# Altium schematic symbol library tokgoz.SchLib: 3 symbols
Pins are listed as number, name and electrical type; pins without a type are passive.

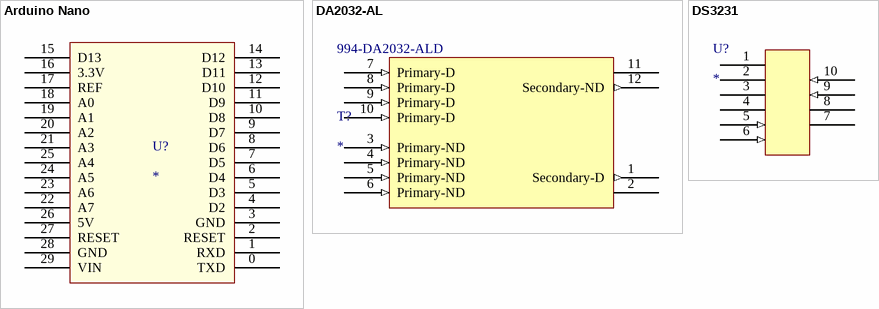
[diagram p0: symbols Arduino Nano to DS3231]

## Arduino Nano
designator U?
footprint Arduino Nano - duplicate
footprint Arduino Nano - duplicate
pins: 0 TXD, 1 RXD, 2 RESET, 3 GND, 4 D2, 5 D3, 6 D4, 7 D5, 8 D6, 9 D7, 10 D8, 11 D9, 12 D10, 13 D11, 14 D12, 15 D13, 16 3.3V, 17 REF, 18 A0, 19 A1, 20 A2, 21 A3, 22 A7, 23 A6, 24 A5, 25 A4, 26 5V, 27 RESET, 28 GND, 29 VIN

## DA2032-AL
designator T?  Supplier Part Number 1: 994-DA2032-ALD
Transformer; Supplier 1: Mouser
footprint DA2032AL
pins: 1 Secondary-D (out), 2, 3 Primary-ND (in), 4 Primary-ND (in), 5 Primary-ND (in), 6 Primary-ND (in), 7 Primary-D (in), 8 Primary-D (in), 9 Primary-D (in), 10 Primary-D (in), 11, 12 Secondary-ND (out)

## DS3231
designator U?
pins: 1, 2, 3, 4, 5 (in), 6 (in), 7, 8, 9 (in), 10 (in)